# EAGLE library part EXPANSIONPORT (library 326298_rev_a)
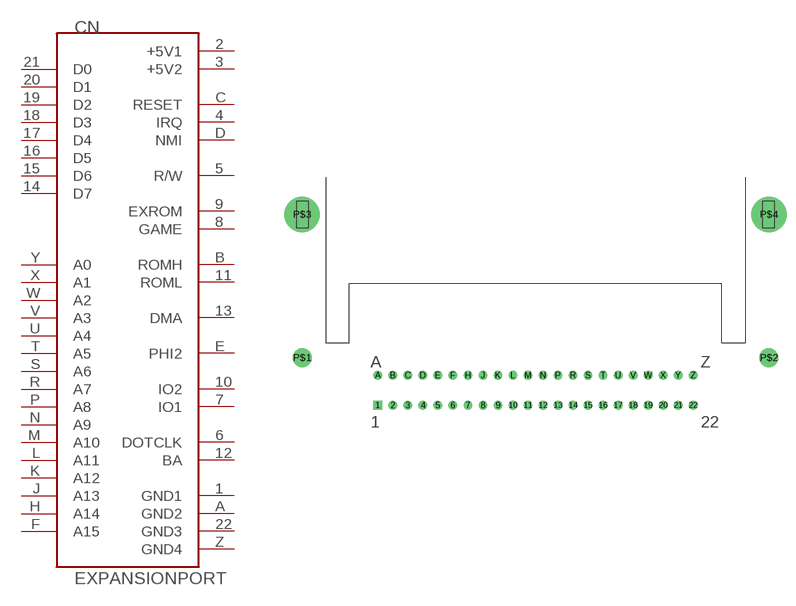
[diagram p23: symbol with the pads of EXPANSIONPORT; footprint EXPANSIONPORT]

Designator prefix CN

## EXPANSIONPORT  [EXPANSIONPORT]
1  GND1  pas
2  +5V1  pas
3  +5V2  pas
4  IRQ  in
5  R/W  out
6  DOTCLK  in
7  IO1  pas
8  GAME  out
9  EXROM  in
10  IO2
11  ROML  pas
12  BA  in
13  DMA  out
14  D7
15  D6
16  D5
17  D4
18  D3
19  D2
20  D1
21  D0
22  GND3  pas
A  GND2  pas
B  ROMH  pas
C  RESET  in
D  NMI  in
E  PHI2  out
F  A15  out
H  A14  out
J  A13  out
K  A12  out
L  A11  out
M  A10  out
N  A9  out
P  A8  out
R  A7  out
S  A6  out
T  A5  out
U  A4  out
V  A3  out
W  A2  out
X  A1  out
Y  A0  out
Z  GND4  pas

## Footprint EXPANSIONPORT (pad centres in mm)
drill 1 square: 1 -26.67,-2.54
drill 1: 2 -24.13,-2.54; 3 -21.59,-2.54; 4 -19.05,-2.54; 5 -16.51,-2.54; 6 -13.97,-2.54; 7 -11.43,-2.54; 8 -8.89,-2.54; 9 -6.35,-2.54; 10 -3.81,-2.54; 11 -1.27,-2.54; 12 1.27,-2.54; 13 3.81,-2.54; 14 6.35,-2.54; 15 8.89,-2.54; 16 11.43,-2.54; 17 13.97,-2.54; 18 16.51,-2.54; 19 19.05,-2.54; 20 21.59,-2.54; 21 24.13,-2.54; 22 26.67,-2.54; A -26.67,2.54; B -24.13,2.54; C -21.59,2.54; D -19.05,2.54; E -16.51,2.54; F -13.97,2.54; H -11.43,2.54; J -8.89,2.54; K -6.35,2.54; L -3.81,2.54; M -1.27,2.54; N 1.27,2.54; P 3.81,2.54; R 6.35,2.54; S 8.89,2.54; T 11.43,2.54; U 13.97,2.54; V 16.51,2.54; W 19.05,2.54; X 21.59,2.54; Y 24.13,2.54; Z 26.67,2.54
drill 2.2: P$1 -39.5,5.54; P$2 39.5,5.54
drill 0.5 pad 6: P$3 -39.5,29.79; P$4 39.5,29.79